# EAGLE library part KLEMME_2-4 (library e-klemmen)
Klemme 2 4
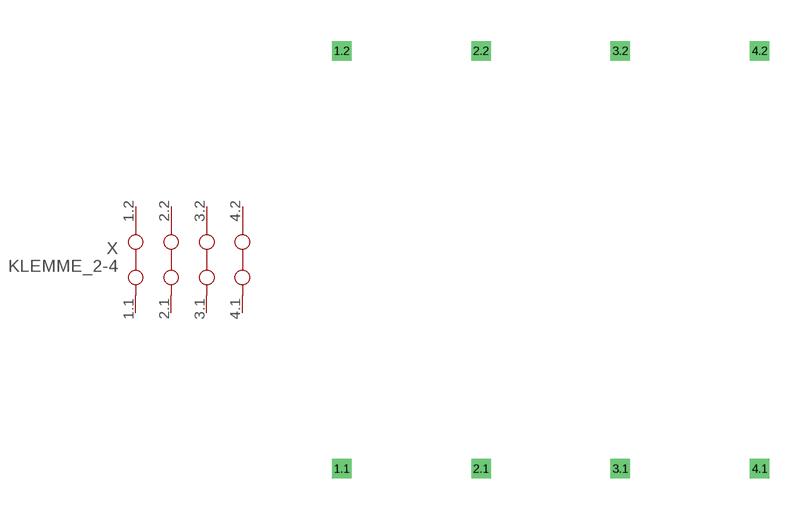
[diagram p4: symbol with the pads of KLEMME_2-4; footprint KLEMME_2-4]

Designator prefix X

## KLEMME_2-4  [KLEMME_2-4]
1.1  1.1  pas
1.2  1.2  pas
2.1  2.1  pas
2.2  2.2  pas
3.1  3.1  pas
3.2  3.2  pas
4.1  4.1  pas
4.2  4.2  pas

## Footprint KLEMME_2-4 (pad centres in mm)
Dummy
drill 0.2 pad 0.6 square: 1.1 0,-7.62; 1.2 0,7.62; 2.1 5.08,-7.62; 2.2 5.08,7.62; 3.1 10.16,-7.62; 3.2 10.16,7.62; 4.1 15.24,-7.62; 4.2 15.24,7.62